# Altium schematic symbol library SML-H12P8TT86C.SchLib: 1 symbol
Pins are listed as number, name and electrical type; pins without a type are passive.

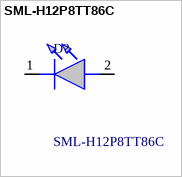
[diagram p0: symbol SML-H12P8TT86C]

## SML-H12P8TT86C
designator D?
ROHM - SML-H12P8TT86C - CHIP LED, AEC-Q101, GREEN, 4MCD, 0805; Manufacturer_Name: ROHM Semiconductor; Geometry.Height: 0.9mm; Mouser Part Number: 755-SML-H12P8TT86C; Mouser Price/Stock: https://www.mouser.co.uk/ProductDetail/ROHM-Semiconductor/SML-H12P8TT86C?qs=HXFqYaX1Q2xINkpk%2F8IQZg%3D%3D; Manufacturer_Part_Number: SML-H12P8TT86C; Datasheet Link: *
footprint LEDC2012X90N
pins: 1 K, 2 A